# EAGLE library part LCD_WITH_COMMON_INTERFACE (library timelapse-prototype-parts)
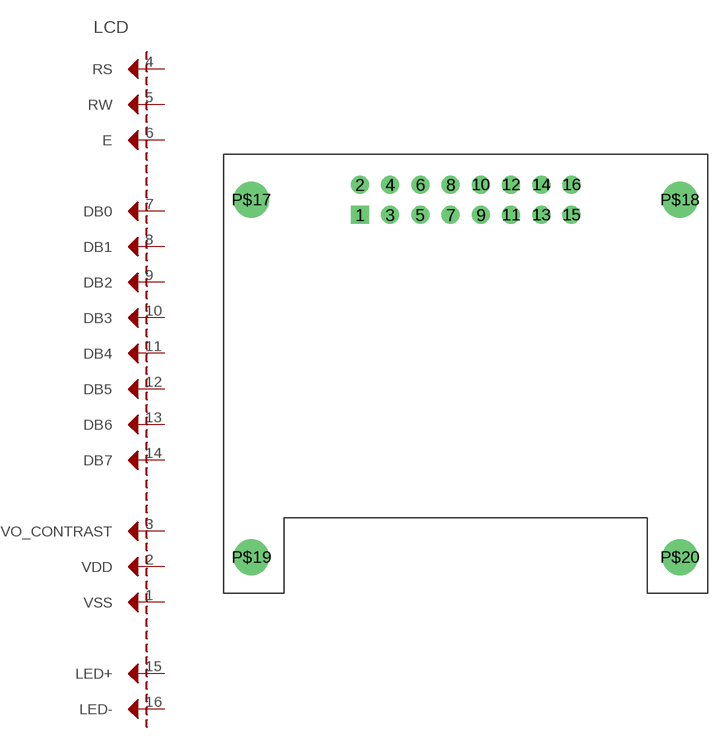
[diagram p9: symbol with the pads of LCD_FDCC0802C-NSWBBH-91LE; footprint LCD_FDCC0802C-NSWBBH-91LE]

Designator prefix LCD

## LCD_WITH_COMMON_INTERFACE  [LCD_FDCC0802C-NSWBBH-91LE]
1  VSS
2  VDD
3  VO_CONTRAST
4  RS
5  RW
6  E
7  DB0
8  DB1
9  DB2
10  DB3
11  DB4
12  DB5
13  DB6
14  DB7
15  LED+
16  LED-

## Footprint LCD_FDCC0802C-NSWBBH-91LE (pad centres in mm)
drill 1 square: 1 -1.27,0
drill 1 round: 2 -1.27,2.54; 3 1.27,0; 4 1.27,2.54; 5 3.81,0; 6 3.81,2.54; 7 6.35,0; 8 6.35,2.54; 9 8.89,0; 10 8.89,2.54; 11 11.43,0; 12 11.43,2.54; 13 13.97,0; 14 13.97,2.54; 15 16.51,0; 16 16.51,2.54
drill 2 round: P$17 -10.38,1.27; P$18 25.62,1.27; P$19 -10.38,-28.73; P$20 25.62,-28.73